# Altium schematic symbol library Panorama_V_0_0_1.SCHLIB: 54 symbols
Pins are listed as number, name and electrical type; pins without a type are passive.

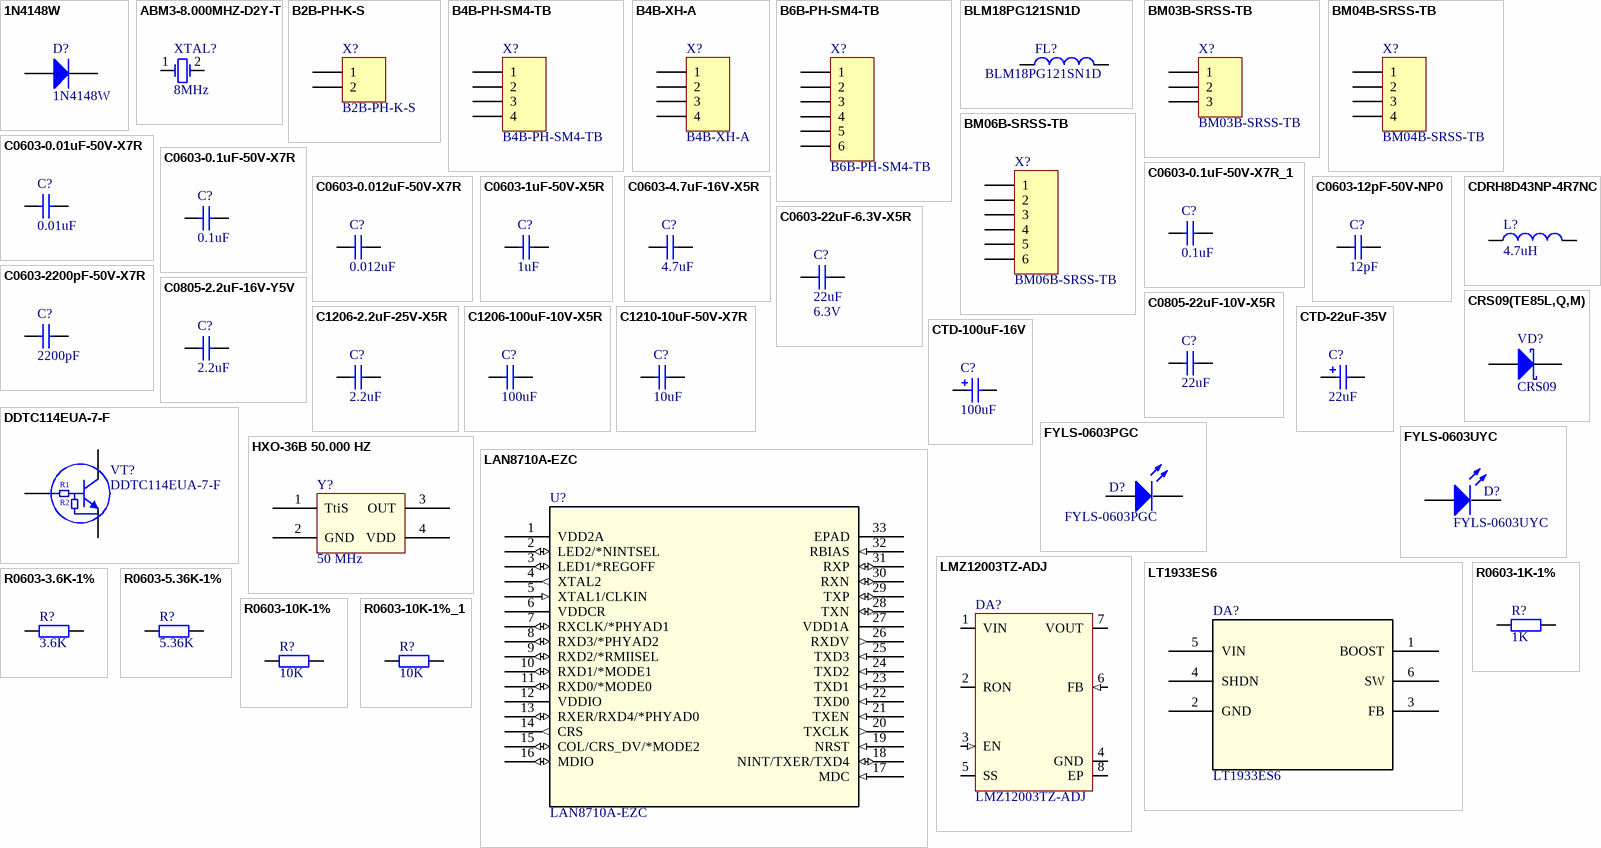
[diagram p0: symbols 1N4148W to R0603-10K-1%_1]

## 1N4148W
designator D?
Diode; Voltage - DC Reverse (Vr) (Max): 75V; Current - Average Rectified (Io): 150mA; Type: DIODE 75V 150MA SOD323F; HelpUrl: \\Storage\Volume_2\SPEKTR-AT\Catalogs\General Semiconductor\Diodes\1N4148W.pdf; Supplier 1: Digi-Key; Supplier Part Number 1: 1N4148WSFSCT-ND
footprint SOD323
pins: 1 A, 2 K

## ABM3-8.000MHZ-D2Y-T
designator XTAL?  value 8MHz  (hidden comment: ABM3-8.000MHZ-D2Y-T)
Supplier Part Number 1: 535-10630-1-ND; Supplier 1: Digi-Key; HelpUrl: https://ru.mouser.com/datasheet/2/3/abm3-47699.pdf
footprint ABM3 (MINIATURE CERAMIC SMD CRYSTAL)
pins: 1 OSC1, 2 OSC2

## B2B-PH-K-S
designator X?
Connector, 2mm; Voltage: 100V; Current: 2A; HelpUrl: \\Storage\Volume_2\SPEKTR-AT\Catalogs\Jst\PH.pdf; Supplier 1: Digi-Key; Supplier Part Number 1: 455-1262-ND
footprint B2B-PH-K-S (Footprint not found)
pins: 1, 2

## B4B-PH-SM4-TB
designator X?
Connector, 2mm; Voltage: 100V; Current: 2A; HelpUrl: \\Storage\Volume_2\SPEKTR-AT\Catalogs\Jst\PH.pdf; Supplier 1: Digi-Key; Supplier Part Number 1: 455-1736-1-ND
footprint B4B-PH-SM4-TB (Footprint not found)
pins: 1, 2, 3, 4, 5 DNC hidden, 6 DNC hidden

## B4B-XH-A
designator X?
Connector, 2.5mm; Voltage: 250V; Current: 3A; HelpUrl: \\Storage\Volume_2\SPEKTR-AT\Catalogs\Jst\eXH.pdf; Supplier 1: Digi-Key; Supplier Part Number 1: 455-2249-ND
footprint B4B-XH-A
pins: 1, 2, 3, 4

## B6B-PH-SM4-TB
designator X?
Connector, 2mm; Voltage: 100V; Current: 2A; HelpUrl: \\Storage\Volume_2\SPEKTR-AT\Catalogs\Jst\PH.pdf; Supplier 1: Digi-Key; Supplier Part Number 1: 455-1738-1-ND
footprint B6B-PH-SM4-TB (Footprint not found)
pins: 1, 2, 3, 4, 5, 6, 7 DNC hidden, 8 DNC hidden

## BLM18PG121SN1D
designator FL?
Filter; Manufacturer_Name: Murata Electronics; Datasheet Link: https://www.murata.com/en-us/products/productdetail?partno=BLM18PG121SN1%23; Height: 0.95mm; Manufacturer_Part_Number: BLM18PG121SN1D; Arrow Part Number: BLM18PG121SN1D; Arrow Price/Stock: https://www.arrow.com/en/products/blm18pg121sn1d/murata-manufacturing; Mouser Part Number: 81-BLM18PG121SN1D; Mouser Price/Stock: https://www.mouser.co.uk/ProductDetail/Murata-Electronics/BLM18PG121SN1D?qs=tY8e8KZalarVxhnmnUYZ1A%3D%3D
footprint BLM18AG102BH1D
pins: 1, 2

## BM03B-SRSS-TB
designator X?
Connector, 1mm; Voltage: 50V; Current: 0.7A; HelpUrl: \\Storage\Volume_2\SPEKTR-AT\Catalogs\Jst\eSR.pdf; Supplier 1: Digi-Key; Supplier Part Number 1: 455-1407-1-ND
footprint BM03B-SRSS-TB
pins: 1, 2, 3, 4 DNC hidden, 5 DNC hidden

## BM04B-SRSS-TB
designator X?
Connector, 1mm; Voltage: 50V; Current: 0.7A; HelpUrl: \\Storage\Volume_2\SPEKTR-AT\Catalogs\Jst\eSR.pdf; Supplier 1: Digi-Key; Supplier Part Number 1: 455-1408-1-ND
footprint BM04B-SRSS-TB
pins: 1, 2, 3, 4, 5 hidden, 6 hidden

## BM06B-SRSS-TB
designator X?
Connector, 1mm; Voltage: 50V; Current: 0.7A; HelpUrl: \\Storage\Volume_2\SPEKTR-AT\Catalogs\Jst\eSR.pdf; Supplier 1: Digi-Key; Supplier Part Number 1: 455-1410-1-ND
footprint BM06B-SRSS-TB
pins: 1, 2, 3, 4, 5, 6, 7 DNC hidden, 8 DNC hidden

## C0603-0.01uF-50V-X7R
designator C?  value 0.01uF  (hidden comment: C0603-0.01uF-50V-X7R)
Ceramic Capacitor; Supplier 1: Digi-Key; Supplier 2: Digi-Key; Supplier 3: Digi-Key; Supplier Part Number 1: 445-1311-1-ND; Supplier Part Number 2: 478-1227-1-ND; Supplier Part Number 3: GRM188R61H103KA01D-ND
footprint C0603 (Footprint not found)
pins: 1, 2

## C0603-0.1uF-50V-X7R
designator C?  value 0.1uF  (hidden comment: C0603-0.1uF-50V-X7R)
Ceramic Capacitor; Supplier 1: Digi-Key; Supplier Part Number 1: 445-1324-1-ND
footprint C0603 (Footprint not found)
pins: 1, 2

## C0603-0.1uF-50V-X7R_1
designator C?, comment value 0.1uF  (hidden comment: C0603-0.1uF-50V-X7R)
Ceramic Capacitor; Supplier 1: Digi-Key; Supplier Part Number 1: 445-1324-1-ND
footprint C0603 (Footprint not found)
pins: 1, 2

## C0603-0.012uF-50V-X7R
designator C?  value 0.012uF  (hidden comment: C0603-0.012uF-50V-X7R)
Ceramic Capacitor; Supplier 1: Digi-Key; Supplier Part Number 1: 490-1513-1-ND
footprint C0603
pins: 1, 2

## C0603-1uF-50V-X5R
designator C?  value 1uF  (hidden comment: C0603-1uF-50V-X5R)
Ceramic Capacitor; Supplier 1: Digi-Key; Supplier Part Number 1: PCC2174TR-ND
footprint C0603 (Footprint not found)
pins: 1, 2

## C0603-4.7uF-16V-X5R
designator C?  value 4.7uF  (hidden comment: C0603-4.7uF-16V-X5R)
Ceramic Capacitor; Supplier 1: Digi-Key; Supplier Part Number 1: 445-7478-1-ND
footprint C0603
pins: 1, 2

## C0603-12pF-50V-NP0
designator C?  value 12pF  (hidden comment: C0603-12pF-50V-NP0)
Ceramic Capacitor; Supplier 1: Digi-Key; Supplier Part Number 1: 445-1270-1-ND
footprint C0603 (Footprint not found)
pins: 1, 2

## C0603-22uF-6.3V-X5R
designator C?  value 22uF  Voltage: 6.3V  (hidden comment: C0603-22uF-6.3V-X5R)
Ceramic Capacitor; Supplier 1: Digi-Key; Supplier Part Number 1: 445-8028-1-ND
footprint C0603
pins: 1, 2

## C0603-2200pF-50V-X7R
designator C?  value 2200pF  (hidden comment: C0603-2200pF-50V-X7R)
Ceramic Capacitor; Supplier 1: Digi-Key; Supplier Part Number 1: 445-1309-1-ND
footprint C0603 (Footprint not found)
pins: 1, 2

## C0805-2.2uF-16V-Y5V
designator C?  value 2.2uF  (hidden comment: C0805-2.2uF-16V-Y5V)
Ceramic Capacitor; Supplier 1: Digi-Key; Supplier Part Number 1: 445-3464-1-ND
footprint C0805
pins: 1, 2

## C0805-22uF-10V-X5R
designator C?  value 22uF  (hidden comment: C0805-22uF-10V-X5R)
Ceramic Capacitor; Supplier 1: Digi-Key; Supplier Part Number 1: 490-10511-1-ND
footprint C0805
pins: 1, 2

## C1206-2.2uF-25V-X5R
designator C?  value 2.2uF  (hidden comment: C1206-2.2uF-25V-X5R)
Ceramic Capacitor; Supplier 1: Digi-Key; Supplier Part Number 1: 445-4045-1-ND
footprint C1206
pins: 1, 2

## C1206-100uF-10V-X5R
designator C?  value 100uF  (hidden comment: C1206-100uF-10V-X5R)
Ceramic Capacitor; Supplier 1: Digi-Key; Supplier Part Number 1: 445-6007-1-ND
footprint C1206
pins: 1, 2

## C1210-10uF-50V-X7R
designator C?  value 10uF  (hidden comment: C1210-10uF-50V-X7R)
Ceramic Capacitor; Supplier 1: Digi-Key
footprint C1210 (Footprint not found)
pins: 1, 2

## CDRH8D43NP-4R7NC
designator L?  value 4.7uH  (hidden comment: CDRH8D43NP-4R7NC)
Inductor; Current: 4.1A; HelpUrl: http://products.sumida.com/products/pdf/CDRH8D43.pdf?__cf_chl_captcha_tk__=f2dd78b9027a2fe299a3aea71ee132a4cfb9459e-1615548098-0-AWv3dTlkYHb3pOZx47LrfRgQQvnbYyh137kl7uefua50nLxSKUUGrqtlCCjrc1LswX_-r6oJbyvsXa0yR2eZdE77H7aOBf-QBKkOOMSNJ3pig1erzpUNp_TWXk-67akAQoTQvkftj8OlbHqQ4H9RdFe8fQ1CNp0rbmLJm5OjBfnKhuu7dCwp-XrQqmHs-aSAf8GurMArTLM56usz57RsDvF83AfaOxVDPdkr-RR6vFv2ejXMzOBUncU1xYUxw2-FtoS50eUSjk3uK32pDW9RQcB7at0zBTfYb7z1XEUU3cNH-LJQFJ6S0r5aCxNOxKsPMag80AtDB68AL3MlL4250ERsFMEv8i6qyXeCYUzPNYhi5Kb7tXKzIjKI_FhX1Ng3Qx8LpjLxEYYXtRJxk8ucr1dLSxq3fgiNj3w-8N0UD2uklKGxzL9lR3tVA2FN_GumzljjVLssxYWb0rvnE7uglc0dEdjxHXEVFs1mSRKMElWKfz_-O5_flhZzggBpUNnWAvtXJkCTCVIunYUQ6UPsGfkNtnBhdXmaIx3qARKHbMCtbeIkj50XdSCf7pF1-MSMB-QwGxhNOsgDZ-CJKYC0bho; Supplier 1: DigiKey; Supplier Part Number 1: 308-2317-2-ND
footprint CDRH8D43 (Footprint not found)
pins: 1, 2

## CRS09(TE85L,Q,M)
designator VD?, comment CRS09
Diode Schottky; Supplier 1: Digi-Key; Supplier Part Number 1: CRS09QCT-ND
footprint SFLAT
pins: 1 A, 2 K

## CTD-22uF-35V
designator C?  value 22uF  (hidden comment: CTD-22uF-35V)
Tantalum Capacitor; Supplier 1: Digi-Key; Supplier Part Number 1: 478-1730-2-ND
footprint CTD (Footprint not found)
pins: 1, 2

## CTD-100uF-16V
designator C?  value 100uF  (hidden comment: CTD-100uF-16V)
Tantalum Capacitor; Supplier 1: Digi-Key; Supplier Part Number 1: 478-1723-1-ND
footprint CTD (Footprint not found)
pins: 1, 2

## DDTC114EUA-7-F
designator VT?
NPN; Vin: -10...40 V; Iout: 50...100 mA; Vout: 0.1V; Type: TRANS PREBIAS NPN 200MW SC70-3; HelpUrl: \\storage\volume_2\SPEKTR-AT\Catalogs\Rohm\Transistors\DTC114EE.pdf; Supplier 1: Digi-Key; Supplier Part Number 1: DDTC114EUA-FDICT-ND
footprint SOT323 (Footprint not found)
pins: 1 B, 2 E, 3 C
text: R1; R2

## FYLS-0603PGC
designator D?
Ultra green; HelpUrl1: http://www.foryard-led.ru/pdf/fyls-0603pgc.pdf
footprint LED0603
pins: 1 A, 2 K

## FYLS-0603UYC
designator D?
Ultra yellow; HelpUrl1: http://www.foryard-led.ru/pdf/fyls-0603uyc.pdf
footprint LED0603
pins: 1 A, 2 K

## HXO-36B 50.000 HZ
designator Y?  value 50 MHz  (hidden comment: HXO-36B 50.000 HZ)
footprint D7SX
pins: 1 TtiS, 2 GND, 3 OUT, 4 VDD

## LAN8710A-EZC
designator U?
Small Footprint MII/RMII 10/100 Ethernet / Transceiver with HP Auto-MDIX and / flexPWR® Technology; Vendor: Microchip; Built_By: EMA_UL_Team; SourceLibrary: Microchip_2014-12-15; Manufacturer_Part_Number: LAN8710A-EZC; Copyright: Copyright (C) 2018 Accelerated Designs. All rights reserved; RefDes: RefDes; Type: DEV
footprint QFN32_5X5MC_MCH
pins: 1 VDD2A (power), 2 LED2/*NINTSEL (io), 3 LED1/*REGOFF (io), 4 XTAL2 (out), 5 XTAL1/CLKIN (in), 6 VDDCR (power), 7 RXCLK/*PHYAD1 (io), 8 RXD3/*PHYAD2 (io), 9 RXD2/*RMIISEL (io), 10 RXD1/*MODE1 (io), 11 RXD0/*MODE0 (io), 12 VDDIO (power), 13 RXER/RXD4/*PHYAD0 (io), 14 CRS (out), 15 COL/CRS_DV/*MODE2 (io), 16 MDIO (io), 17 MDC (in), 18 NINT/TXER/TXD4 (io), 19 NRST (in), 20 TXCLK (out), 21 TXEN (in), 22 TXD0 (in), 23 TXD1 (in), 24 TXD2 (in), 25 TXD3 (in), 26 RXDV (out), 27 VDD1A (power), 28 TXN (io), 29 TXP (io), 30 RXN (io), 31 RXP (io), 32 RBIAS (in), 33 EPAD

## LMZ12003TZ-ADJ
designator DA?
Type: 1A SIMPLE SWITCHER® Power Module with 20V Maximum  Input Voltage; HelpUrl: *
footprint TZA07A
pins: 1 VIN (power), 2 RON, 3 EN (in), 4 GND (power), 5 SS, 6 FB (in), 7 VOUT (power), 8 EP (power)

## LT1933ES6
designator DA?
No Description Available; Manufacturer_Part_Number: LT1933ES6#TRPBF; Built_By: EMA_UL_Team; Vendor: Linear Technology; SourceLibrary: LinearTech_2016-05-13_6; Copyright: Copyright (C) 2018 Accelerated Designs. All rights reserved; RefDes: RefDes; Type: DEV
footprint TSOT-23_S6_LIT
footprint TSOT-23 (LT1933)
pins: 1 BOOST, 2 GND, 3 FB, 4 SHDN (power), 5 VIN, 6 SW (power)

## R0603-1K-1%
designator R?  value 1K  (hidden comment: R0603-1K-1%)
Chip Resistor; Supplier 1: Digi-Key; Supplier Part Number 1: P1.00KHCT-ND
footprint R0603 (Footprint not found)
pins: 1, 2

## R0603-3.6K-1%
designator R?  value 3.6K  (hidden comment: R0603-3.6K-1%)
Chip Resistor; Supplier 1: Digi-Key; Supplier Part Number 1: P3.60KHCT-ND
footprint R0603 (Footprint not found)
pins: 1, 2

## R0603-5.36K-1%
designator R?  value 5.36K  (hidden comment: R0603-5.36K-1%)
Chip Resistor; Supplier 1: Digi-Key; Supplier Part Number 1: P5.36KHCT-ND
footprint R0603
pins: 1, 2

## R0603-10K-1%
designator R?  value 10K  (hidden comment: R0603-10K-1%)
Chip Resistor; Supplier 1: Digi-Key; Supplier Part Number 1: P10.0KHCT-ND
footprint R0603 (Footprint not found)
pins: 1, 2

## R0603-10K-1%_1
designator R?, comment value 10K  (hidden comment: R0603-10K-1%)
Chip Resistor; Supplier 1: Digi-Key; Supplier Part Number 1: P10.0KHCT-ND
footprint R0603 (Footprint not found)
pins: 1, 2

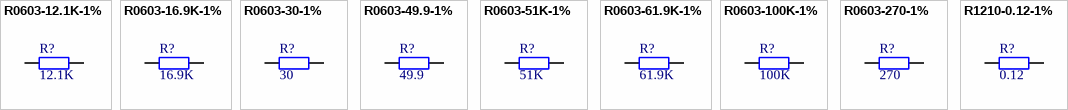
[diagram p1: symbols R0603-12.1K-1% to R1210-0.12-1%]

## R0603-12.1K-1%
designator R?  value 12.1K  (hidden comment: R0603-12.1K-1%)
Chip Resistor; Supplier 1: Digi-Key; Supplier Part Number 1: P12.1KHTR-ND
footprint R0603 (Footprint not found)
pins: 1, 2

## R0603-16.9K-1%
designator R?  value 16.9K  (hidden comment: R0603-16.9K-1%)
Chip Resistor; Supplier 1: Digi-Key; Supplier Part Number 1: P16.9KHCT-ND
footprint R0603 (Footprint not found)
pins: 1, 2

## R0603-30-1%
designator R?  value 30  (hidden comment: R0603-30-1%)
Chip Resistor; Supplier 1: Digi-Key; Supplier Part Number 1: P30.0HCT-ND
footprint R0603 (Footprint not found)
pins: 1, 2

## R0603-49.9-1%
designator R?  value 49.9  (hidden comment: R0603-49.9-1%)
Chip Resistor; Supplier 1: Digi-Key; Supplier Part Number 1: P49.9HTR-ND
footprint R0603 (Footprint not found)
pins: 1, 2

## R0603-51K-1%
designator R?  value 51K  (hidden comment: R0603-51K-1%)
Chip Resistor; Supplier 1: Digi-Key; Supplier Part Number 1: P51.0KHCT-ND
footprint R0603 (Footprint not found)
pins: 1, 2

## R0603-61.9K-1%
designator R?  value 61.9K  (hidden comment: R0603-61.9K-1%)
Chip Resistor; Supplier 1: Digi-Key; Supplier Part Number 1: P61.9KHCT-ND
footprint R0603 (Footprint not found)
pins: 1, 2

## R0603-100K-1%
designator R?  value 100K  (hidden comment: R0603-100K-1%)
Chip Resistor; Supplier 1: Digi-Key; Supplier Part Number 1: P100KHCT-ND
footprint R0603 (Footprint not found)
pins: 1, 2

## R0603-270-1%
designator R?  value 270  (hidden comment: R0603-270-1%)
Chip Resistor; Supplier 1: Digi-Key; Supplier Part Number 1: P300HCT-ND
footprint R0603 (Footprint not found)
pins: 1, 2

## R1210-0.12-1%
designator R?  value 0.12  (hidden comment: R1210-0.12-1%)
Chip Resistor; Supplier 1: Digi-Key; Supplier Part Number 1: 311-0.12NATR-ND
footprint R1210 (Footprint not found)
pins: 1, 2

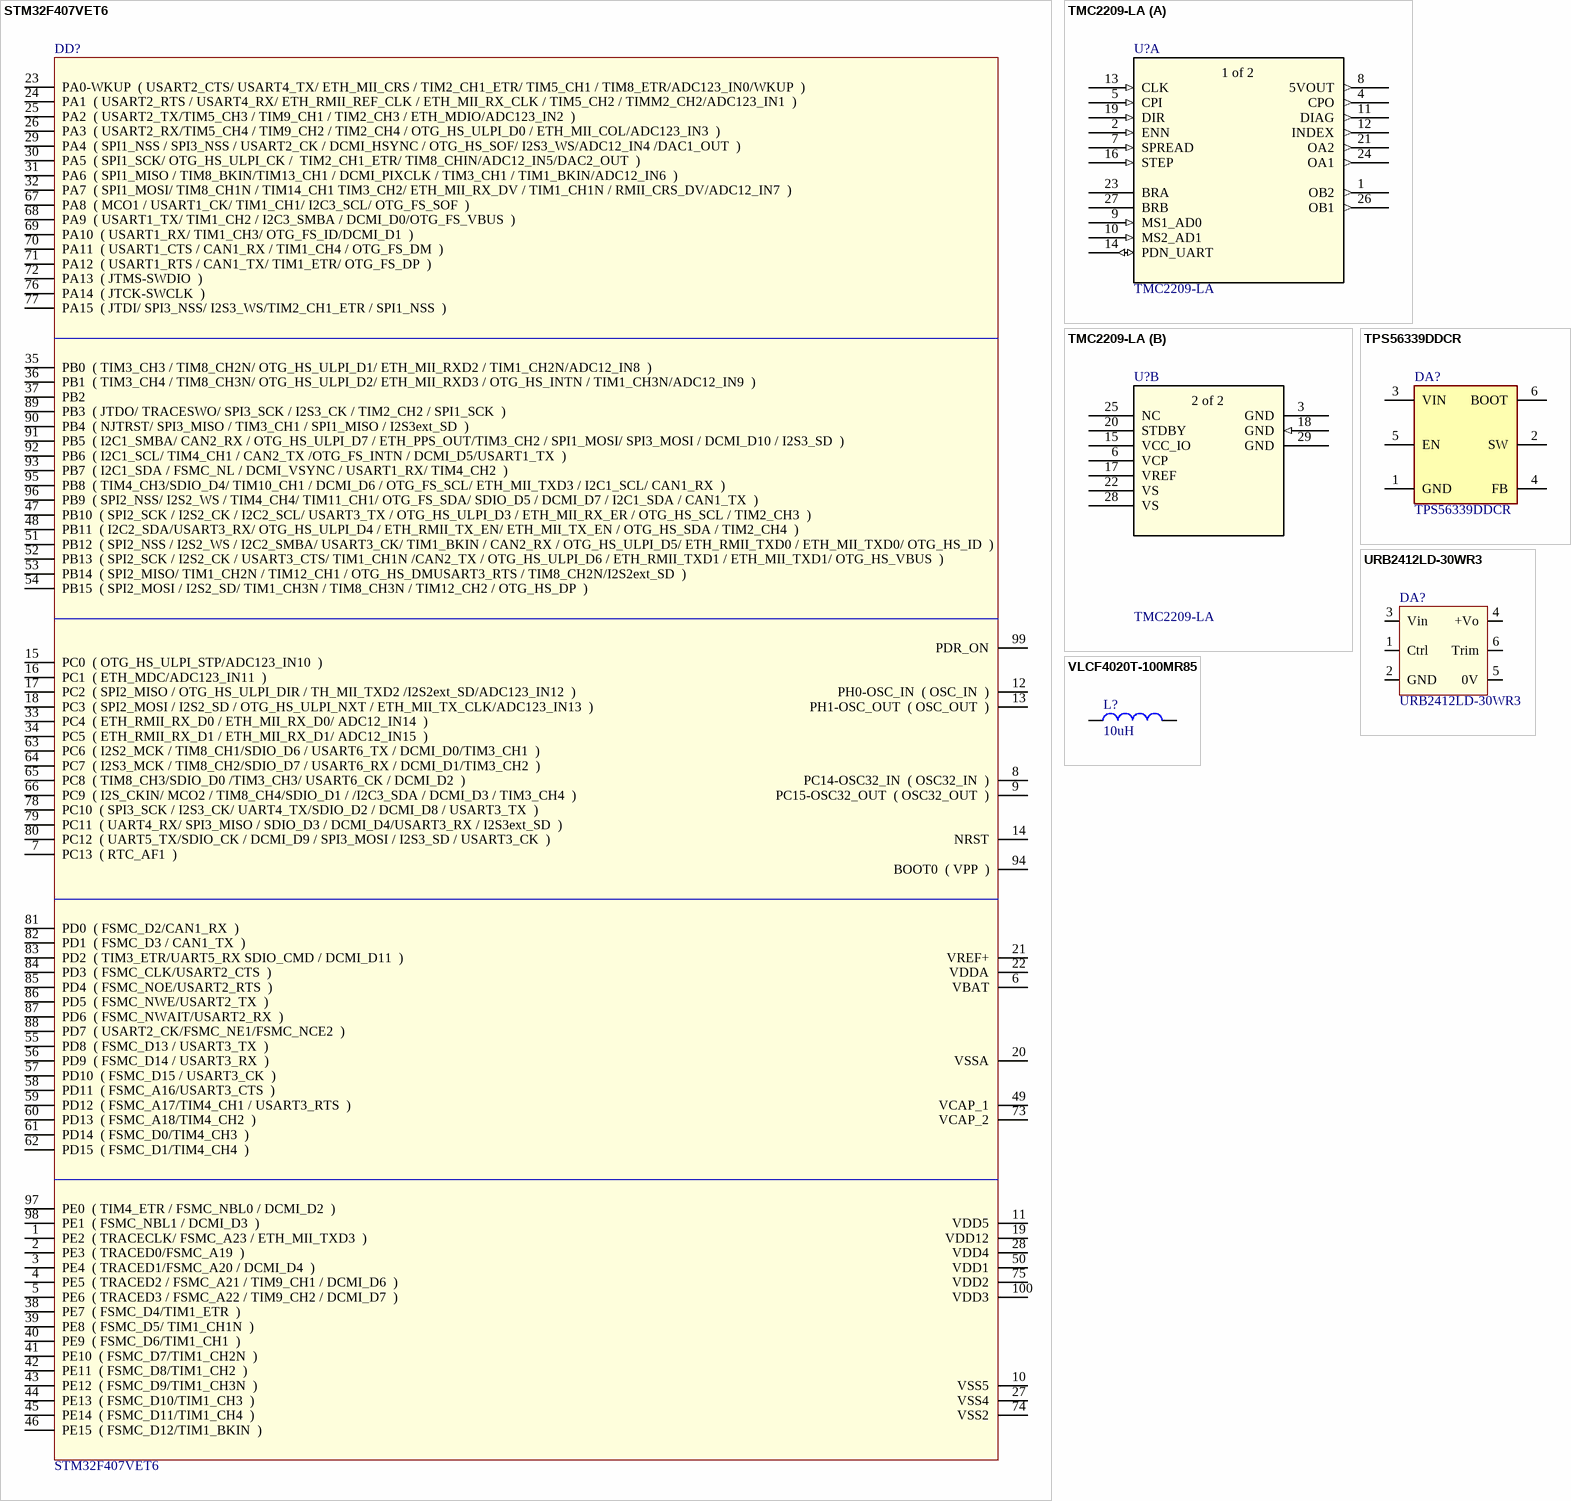
[diagram p2: symbols STM32F407VET6 to VLCF4020T-100MR85]

## STM32F407VET6
designator DD?
footprint LQFP100 (Footprint not found)
pins: 1 PE2  ( TRACECLK/ FSMC_A23 / ETH_MII_TXD3  ), 2 PE3  ( TRACED0/FSMC_A19  ), 3 PE4  ( TRACED1/FSMC_A20 / DCMI_D4  ), 4 PE5  ( TRACED2 / FSMC_A21 / TIM9_CH1 / DCMI_D6  ), 5 PE6  ( TRACED3 / FSMC_A22 / TIM9_CH2 / DCMI_D7  ), 6 VBAT, 7 PC13  ( RTC_AF1  ), 8 PC14-OSC32_IN  ( OSC32_IN  ), 9 PC15-OSC32_OUT  ( OSC32_OUT  ), 10 VSS5, 11 VDD5, 12 PH0-OSC_IN  ( OSC_IN  ), 13 PH1-OSC_OUT  ( OSC_OUT  ), 14 NRST, 15 PC0  ( OTG_HS_ULPI_STP/ADC123_IN10  ), 16 PC1  ( ETH_MDC/ADC123_IN11  ), 17 PC2  ( SPI2_MISO / OTG_HS_ULPI_DIR / TH_MII_TXD2 /I2S2ext_SD/ADC123_IN12  ), 18 PC3  ( SPI2_MOSI / I2S2_SD / OTG_HS_ULPI_NXT / ETH_MII_TX_CLK/ADC123_IN13  ), 19 VDD12, 20 VSSA, 21 VREF+, 22 VDDA, 23 PA0-WKUP  ( USART2_CTS/ USART4_TX/ ETH_MII_CRS / TIM2_CH1_ETR/ TIM5_CH1 / TIM8_ETR/ADC123_IN0/WKUP  ), 24 PA1  ( USART2_RTS / USART4_RX/ ETH_RMII_REF_CLK / ETH_MII_RX_CLK / TIM5_CH2 / TIMM2_CH2/ADC123_IN1  ), 25 PA2  ( USART2_TX/TIM5_CH3 / TIM9_CH1 / TIM2_CH3 / ETH_MDIO/ADC123_IN2  ), 26 PA3  ( USART2_RX/TIM5_CH4 / TIM9_CH2 / TIM2_CH4 / OTG_HS_ULPI_D0 / ETH_MII_COL/ADC123_IN3  ), 27 VSS4, 28 VDD4, 29 PA4  ( SPI1_NSS / SPI3_NSS / USART2_CK / DCMI_HSYNC / OTG_HS_SOF/ I2S3_WS/ADC12_IN4 /DAC1_OUT  ), 30 PA5  ( SPI1_SCK/ OTG_HS_ULPI_CK /  TIM2_CH1_ETR/ TIM8_CHIN/ADC12_IN5/DAC2_OUT  ), 31 PA6  ( SPI1_MISO / TIM8_BKIN/TIM13_CH1 / DCMI_PIXCLK / TIM3_CH1 / TIM1_BKIN/ADC12_IN6  ), 32 PA7  ( SPI1_MOSI/ TIM8_CH1N / TIM14_CH1 TIM3_CH2/ ETH_MII_RX_DV / TIM1_CH1N / RMII_CRS_DV/ADC12_IN7  ), 33 PC4  ( ETH_RMII_RX_D0 / ETH_MII_RX_D0/ ADC12_IN14  ), 34 PC5  ( ETH_RMII_RX_D1 / ETH_MII_RX_D1/ ADC12_IN15  ), 35 PB0  ( TIM3_CH3 / TIM8_CH2N/ OTG_HS_ULPI_D1/ ETH_MII_RXD2 / TIM1_CH2N/ADC12_IN8  ), 36 PB1  ( TIM3_CH4 / TIM8_CH3N/ OTG_HS_ULPI_D2/ ETH_MII_RXD3 / OTG_HS_INTN / TIM1_CH3N/ADC12_IN9  ), 37 PB2, 38 PE7  ( FSMC_D4/TIM1_ETR  ), 39 PE8  ( FSMC_D5/ TIM1_CH1N  ), 40 PE9  ( FSMC_D6/TIM1_CH1  ), 41 PE10  ( FSMC_D7/TIM1_CH2N  ), 42 PE11  ( FSMC_D8/TIM1_CH2  ), 43 PE12  ( FSMC_D9/TIM1_CH3N  ), 44 PE13  ( FSMC_D10/TIM1_CH3  ), 45 PE14  ( FSMC_D11/TIM1_CH4  ), 46 PE15  ( FSMC_D12/TIM1_BKIN  ), 47 PB10  ( SPI2_SCK / I2S2_CK / I2C2_SCL/ USART3_TX / OTG_HS_ULPI_D3 / ETH_MII_RX_ER / OTG_HS_SCL / TIM2_CH3  ), 48 PB11  ( I2C2_SDA/USART3_RX/ OTG_HS_ULPI_D4 / ETH_RMII_TX_EN/ ETH_MII_TX_EN / OTG_HS_SDA / TIM2_CH4  ), 49 VCAP_1, 50 VDD1, 51 PB12  ( SPI2_NSS / I2S2_WS / I2C2_SMBA/ USART3_CK/ TIM1_BKIN / CAN2_RX / OTG_HS_ULPI_D5/ ETH_RMII_TXD0 / ETH_MII_TXD0/ OTG_HS_ID  ), 52 PB13  ( SPI2_SCK / I2S2_CK / USART3_CTS/ TIM1_CH1N /CAN2_TX / OTG_HS_ULPI_D6 / ETH_RMII_TXD1 / ETH_MII_TXD1/ OTG_HS_VBUS  ), 53 PB14  ( SPI2_MISO/ TIM1_CH2N / TIM12_CH1 / OTG_HS_DMUSART3_RTS / TIM8_CH2N/I2S2ext_SD  ), 54 PB15  ( SPI2_MOSI / I2S2_SD/ TIM1_CH3N / TIM8_CH3N / TIM12_CH2 / OTG_HS_DP  ), 55 PD8  ( FSMC_D13 / USART3_TX  ), 56 PD9  ( FSMC_D14 / USART3_RX  ), 57 PD10  ( FSMC_D15 / USART3_CK  ), 58 PD11  ( FSMC_A16/USART3_CTS  ), 59 PD12  ( FSMC_A17/TIM4_CH1 / USART3_RTS  ), 60 PD13  ( FSMC_A18/TIM4_CH2  ), 61 PD14  ( FSMC_D0/TIM4_CH3  ), 62 PD15  ( FSMC_D1/TIM4_CH4  ), 63 PC6  ( I2S2_MCK / TIM8_CH1/SDIO_D6 / USART6_TX / DCMI_D0/TIM3_CH1  ), 64 PC7  ( I2S3_MCK / TIM8_CH2/SDIO_D7 / USART6_RX / DCMI_D1/TIM3_CH2  ), 65 PC8  ( TIM8_CH3/SDIO_D0 /TIM3_CH3/ USART6_CK / DCMI_D2  ), 66 PC9  ( I2S_CKIN/ MCO2 / TIM8_CH4/SDIO_D1 / /I2C3_SDA / DCMI_D3 / TIM3_CH4  ), 67 PA8  ( MCO1 / USART1_CK/ TIM1_CH1/ I2C3_SCL/ OTG_FS_SOF  ), 68 PA9  ( USART1_TX/ TIM1_CH2 / I2C3_SMBA / DCMI_D0/OTG_FS_VBUS  ), 69 PA10  ( USART1_RX/ TIM1_CH3/ OTG_FS_ID/DCMI_D1  ), 70 PA11  ( USART1_CTS / CAN1_RX / TIM1_CH4 / OTG_FS_DM  ), 71 PA12  ( USART1_RTS / CAN1_TX/ TIM1_ETR/ OTG_FS_DP  ), 72 PA13  ( JTMS-SWDIO  ), 73 VCAP_2, 74 VSS2, 75 VDD2, 76 PA14  ( JTCK-SWCLK  ), 77 PA15  ( JTDI/ SPI3_NSS/ I2S3_WS/TIM2_CH1_ETR / SPI1_NSS  ), 78 PC10  ( SPI3_SCK / I2S3_CK/ UART4_TX/SDIO_D2 / DCMI_D8 / USART3_TX  ), 79 PC11  ( UART4_RX/ SPI3_MISO / SDIO_D3 / DCMI_D4/USART3_RX / I2S3ext_SD  ), 80 PC12  ( UART5_TX/SDIO_CK / DCMI_D9 / SPI3_MOSI / I2S3_SD / USART3_CK  ), 81 PD0  ( FSMC_D2/CAN1_RX  ), 82 PD1  ( FSMC_D3 / CAN1_TX  ), 83 PD2  ( TIM3_ETR/UART5_RX SDIO_CMD / DCMI_D11  ), 84 PD3  ( FSMC_CLK/USART2_CTS  ), 85 PD4  ( FSMC_NOE/USART2_RTS  ), 86 PD5  ( FSMC_NWE/USART2_TX  ), 87 PD6  ( FSMC_NWAIT/USART2_RX  ), 88 PD7  ( USART2_CK/FSMC_NE1/FSMC_NCE2  ), 89 PB3  ( JTDO/ TRACESWO/ SPI3_SCK / I2S3_CK / TIM2_CH2 / SPI1_SCK  ), 90 PB4  ( NJTRST/ SPI3_MISO / TIM3_CH1 / SPI1_MISO / I2S3ext_SD  ), 91 PB5  ( I2C1_SMBA/ CAN2_RX / OTG_HS_ULPI_D7 / ETH_PPS_OUT/TIM3_CH2 / SPI1_MOSI/ SPI3_MOSI / DCMI_D10 / I2S3_SD  ), 92 PB6  ( I2C1_SCL/ TIM4_CH1 / CAN2_TX /OTG_FS_INTN / DCMI_D5/USART1_TX  ), 93 PB7  ( I2C1_SDA / FSMC_NL / DCMI_VSYNC / USART1_RX/ TIM4_CH2  ), 94 BOOT0  ( VPP  ), 95 PB8  ( TIM4_CH3/SDIO_D4/ TIM10_CH1 / DCMI_D6 / OTG_FS_SCL/ ETH_MII_TXD3 / I2C1_SCL/ CAN1_RX  ), 96 PB9  ( SPI2_NSS/ I2S2_WS / TIM4_CH4/ TIM11_CH1/ OTG_FS_SDA/ SDIO_D5 / DCMI_D7 / I2C1_SDA / CAN1_TX  ), 97 PE0  ( TIM4_ETR / FSMC_NBL0 / DCMI_D2  ), 98 PE1  ( FSMC_NBL1 / DCMI_D3  ), 99 PDR_ON, 100 VDD3

## TMC2209-LA
designator U?
Ultra-silent motor driver IC for two phase stepper motors.; SourceLibrary: Add_to_database_2020-10-29; Built_By: EMA_Cory; Vendor: Trinamic; Datasheet: https://www.trinamic.com/products/integrated-circuits/details/tmc2209-la/; Copyright: Copyright (C) 2018 Accelerated Designs. All rights reserved; Manufacturer_Part_Number: TMC2209-LA; RefDes: RefDes; Type: DEV
footprint QFN28_5X5_TRI
footprint QFN28 (QFN, 28-Leads, Body 5,00x5,00mm, Pitch 0,50mm, Thermal Pad 3,15x3,15mm, IPC Medium Density)
part A pins: 1 OB2 (out), 2 ENN (in), 4 CPO (out), 5 CPI (in), 7 SPREAD (in), 8 5VOUT (out), 9 MS1_AD0 (in), 10 MS2_AD1 (in), 11 DIAG (out), 12 INDEX (out), 13 CLK (in), 14 PDN_UART (io), 16 STEP (in), 19 DIR (in), 21 OA2 (out), 23 BRA, 24 OA1 (out), 26 OB1 (out), 27 BRB
part B pins: 3 GND, 6 VCP (power), 15 VCC_IO (power), 17 VREF, 18 GND (in), 20 STDBY (power), 22 VS (power), 25 NC, 28 VS (power), 29 GND
part A text: 1 of 2
part B text: 2 of 2

## TPS56339DDCR
designator DA?
4.5-V to 24-V Input, 3-A Output Synchronous Buck Converter
footprint SOT23-6
pins: 1 GND, 2 SW, 3 VIN, 4 FB, 5 EN, 6 BOOT

## URB2412LD-30WR3
designator DA?
DC/DC Converter; HelpUrl: https://www.mornsun-power.com/uploads/pdf/URA_LD-30WR3.pdf
footprint URA_LD-30WR3
footprint URB2412LD-30WR3 (DC-DC Brick)
pins: 1 Ctrl, 2 GND, 3 Vin, 4 +Vo, 5 0V, 6 Trim

## VLCF4020T-100MR85
designator L?  value 10uH  (hidden comment: VLCF4020T-100MR85)
Inductor; Current: 0.85A; HelpUrl: \\Storage\Volume_2\SPEKTR-AT\Catalogs\Tdk\Inductors\vlcf4020.pdf; Supplier 1: Digi-Key; Supplier Part Number 1: 445-3186-1-ND
footprint VLCF4020T (Footprint not found)
pins: 1, 2